# Altium footprint library PCB_Lib.PcbLib: 301 footprints (part 4 of 19)
Each footprint in its own frame and in the unit in brackets; x right, y up, seen from the top. Pads: shape width x height; smd on the part's side, far side on the other; paste and mask are expansions set on the pad; w line width, h text height; cw(c..) or ccw(c..) is an arc to the next point about the centre after c.
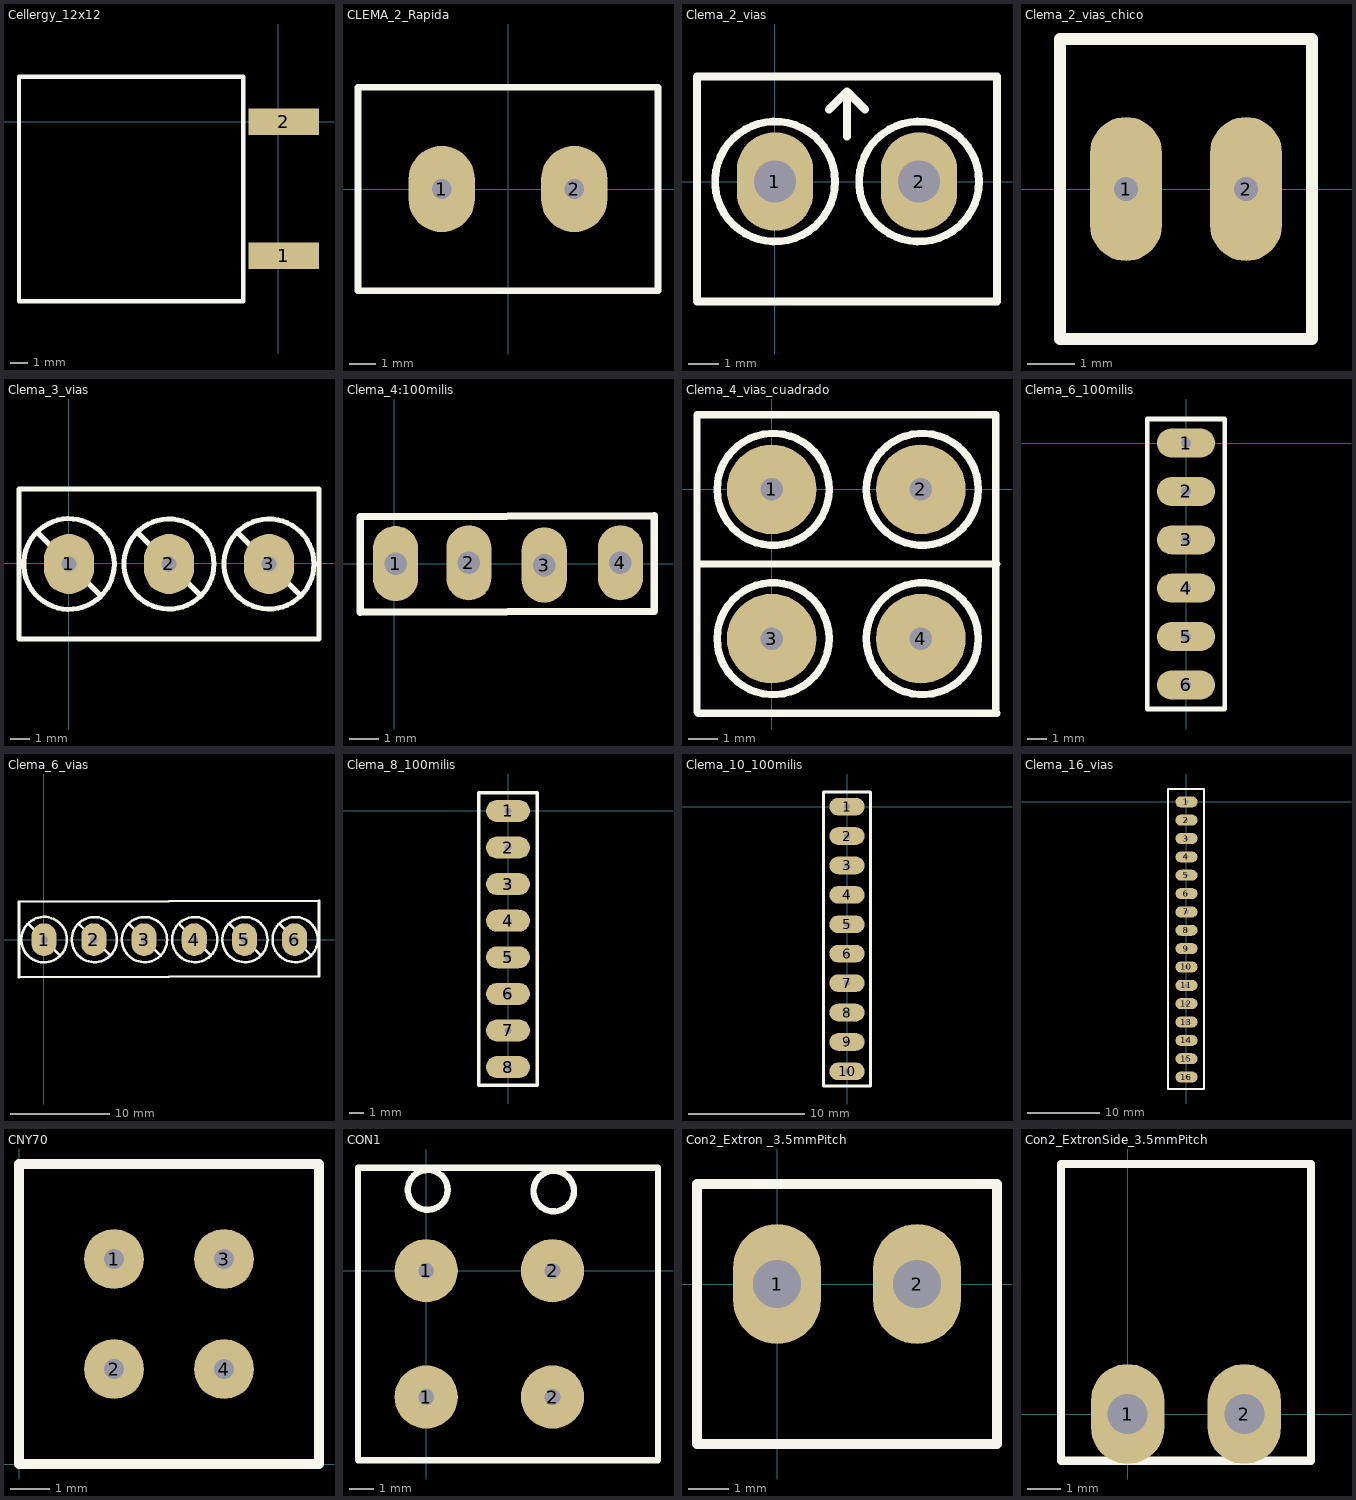
[diagram p3: the footprints below, top view; thin cyan lines are the x and y axes]

## Cellergy_12x12 [mm]
pads (2):
  rect 4x1.5 smd: 1(0.305,-7.6) 2(0.305,0)
Top Overlay:
  lines w0.254: -14.681,-10.16 -14.681,-3.81 -14.681,2.54 -8.331,2.54 -1.981,2.54 -1.981,-3.81 -1.981,-10.16 -8.331,-10.16 -14.681,-10.16

## CLEMA_2_Rapida [mil] "Conector 2 vias"
pads (2):
  oval 100x130 hole 30: 1(-100,0) 2(100,0)
Top Overlay:
  lines w10: -226.38,-153.54 226.38,-153.54 226.38,153.54 -226.38,153.54 -226.38,-153.54

## Clema_2_vias [mm] "Conector 2 vias"
pads (2):
  oval 2.54x3.302 hole 1.4: 1(0,0) 2(4.8,0)
Top Overlay:
  circle w0.254: c0,0 r2
  circle w0.254: c4.8,0 r2
  lines w0.254: 1.8,2.4 2.4,3 ; 2.4,1.5 2.4,3 ; 3,2.4 2.4,3 ; -2.6,-4 7.4,-4 7.4,3.5 -2.6,3.5 -2.6,-4

## Clema_2_vias_chico [mil]
pads (2):
  oval 60x120 hole 20: 1(-200,0) 2(-100,0)
Top Overlay:
  lines w10: -255,-125 -100,-125 -45,-125 -45,125 -255,125 -255,-125

## Clema_3_vias [mil] "Conector 3 vias"
pads (3):
  oval 100x120 hole 30: 1(0.98,-1.97) 2(200.98,-1.97) 3(400.98,-1.97)
Top Overlay:
  circle w10: c200.98,-1.97 r90
  circle w10: c0.98,-1.97 r90.55
  circle w10: c400.98,-1.97 r90
  lines w10: -59.02,58.03 0.98,-1.97 60.98,-61.97 ; 140.98,58.03 200.98,-1.97 260.98,-61.97 ; 340.98,58.03 400.98,-1.97 460.98,-61.97 ; -99.02,-151.97 -99.02,148.03 500.98,148.03 500.98,-151.97 -99.02,-151.97

## Clema_4:100milis [mil]
height 100
pads (4):
  oval 60x100 hole 30: 1(1.97,0) 2(99.41,0.98) 3(199.8,-1.97) 4(301.18,0.98)
Top Overlay:
  lines w10: -45,-65.09 -45,62.31 346,63.94 346,-63.46 -45,-65.09

## Clema_4_vias_cuadrado [mil] "Conector 2 vias"
pads (4):
  round 120 hole 30: 1(0,0) 2(200,0) 3(0,-200) 4(200,-200)
Top Overlay:
  circle w10: c1.97,-200 r75
  circle w10: c201.97,-200 r75
  circle w10: c201.97,0 r75
  circle w10: c1.97,0 r75
  lines w10: -100,-298.03 -100,100 300,100 300,-298.03 ; -98.03,-300 301.97,-300 ; -98.03,-100 301.97,-100 -98.03,-100

## Clema_6_100milis [mil]
height 100
pads (6):
  oval 120x60 hole 20: 1(0,0) 2(0,-100) 3(0,-200) 4(0,-300) 5(0,-400) 6(0,-500)
Top Overlay:
  lines w10: -80,-550 -80,50 80,50 80,-550 -80,-550

## Clema_6_vias [mil]
height 100
pads (6):
  oval 100x130 hole 30: 1(1.97,0) 2(200,0) 3(400,0) 4(600,0) 5(800,0) 6(1000,0)
Top Overlay:
  circle w10: c1.97,0 r90.55
  circle w10: c201.97,0 r90
  circle w10: c401.97,0 r90
  circle w10: c601.97,0 r90
  circle w10: c801.97,0 r90
  circle w10: c1001.97,0 r90
  lines w10: -58.03,60 1.97,0 61.97,-60 ; 141.97,60 201.97,0 261.97,-60 ; 341.97,60 401.97,0 461.97,-60 ; 541.97,60 601.97,0 661.97,-60 ; 741.97,60 801.97,0 861.97,-60 ; 941.97,60 1001.97,0 1061.97,-60 ; -98.03,-150 1096.97,-145 1096.97,155 -98.03,150 -98.03,-150

## Clema_8_100milis [mil]
pads (8):
  oval 120x60 hole 20: 1(0,0) 2(0,-100) 3(0,-200) 4(0,-300) 5(0,-400) 6(0,-500) 7(0,-600) 8(0,-700)
Top Overlay:
  lines w10: -80,-750 -80,50 80,50 80,-750 -80,-750

## Clema_10_100milis [mil]
pads (10):
  oval 120x60 hole 20: 1(0,0) 2(0,-100) 3(0,-200) 4(0,-300) 5(0,-400) 6(0,-500) 7(0,-600) 8(0,-700) 10(0,-900)
  oval 120x60 hole 20 paste+0: 9(0,-800)
Top Overlay:
  lines w10: -80,-950 80,-950 80,50 -80,50 -80,-950

## Clema_16_vias [mil]
pads (16):
  oval 120x60 hole 20: 1(0,0) 2(0,-100) 3(0,-200) 4(0,-300) 5(0,-400) 6(0,-500) 7(0,-600) 8(0,-700) 9(0,-800) 10(0,-900) 11(0,-1000) 12(0,-1100) 13(0,-1200) 14(0,-1300) 15(0,-1400) 16(0,-1500)
Top Overlay:
  lines w10: -100,-1565 -100,70 95,70 95,-1565 -100,-1565

## CNY70 [mil] "sensor negro"
pads (4):
  round 60 hole 20: 1(95,205) 2(95,95) 3(205,205) 4(205,95)
Top Overlay:
  lines w10: 0,0 300,0 300,300 0,300 0,0

## CON1 [mil]
pads (4):
  round 100 hole 25: 1(0,-200) 1(0,0) 2(200,-200) 2(200,0)
Top Overlay:
  circle w10: c201.94,126 r32.06
  circle w10: c2.42,128 r31.58
  lines w10: -92,163 367,163 367,-23 ; 100,163 -108,163 -108,93 -108,-300 367,-300 367,100

## Con2_Extron _3.5mmPitch [mm]
height 2.54
pads (2):
  oval 2.2x3 hole 1.2: 1(0,0) 2(3.5,0)
Top Overlay:
  lines w0.254: -2,-4 -2,2.5 5.5,2.5 5.5,-4 -2,-4

## Con2_ExtronSide_3.5mmPitch [mm]
height 2.54
pads (2):
  oval 2.2x3 hole 1.2: 1(0,0) 2(3.5,0)
Top Overlay:
  lines w0.254: -2,-1.4 5.5,-1.4 5.5,7.5 -2,7.5 -2,-1.4